# EAGLE library part ZXMP6A17E6TA (library Diodes_Inc_By_element14_Batch_1)
60V P-CHANNEL ENHANCEMENT MODE MOSFET
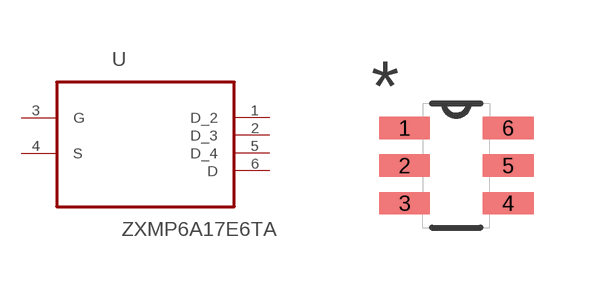
[diagram p58: symbol with the pads of SOT95P280X110-6N; footprint SOT95P280X110-6N]

Designator prefix U

## ZXMP6A17E6TA (MPN: ZXMP6A17E6TA; OC_FARNELL: 1843775; OC_NEWARK: 12T2279; PACKAGE: SOT-6; SUPPLIER: DIODES INC.)  [SOT95P280X110-6N]
1  D_2  out
2  D_3  out
3  G  in
4  S  in
5  D_4  out
6  D  out

## Footprint SOT95P280X110-6N (pad centres in mm)
smd 1.27 x 0.559: 1 -1.295,0.94; 2 -1.295,0; 3 -1.295,-0.94; 4 1.295,-0.94; 5 1.295,0; 6 1.295,0.94